# Altium footprint library ce100.PcbLib: 2 footprints
Each footprint in its own frame and in the unit in brackets; x right, y up, seen from the top. Pads: shape width x height; smd on the part's side, far side on the other; paste and mask are expansions set on the pad; w line width, h text height; cw(c..) or ccw(c..) is an arc to the next point about the centre after c.
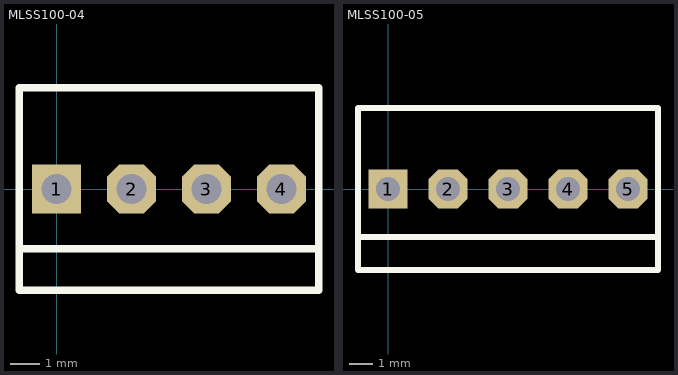
[diagram p0: the footprints below, top view; thin cyan lines are the x and y axes]

## MLSS100-04 [mil]
pads (4):
  rect 65x65 hole 39.37: 1(0,0)
  oct 65x65 hole 39.37: 2(100,0) 3(200,0) 4(300,0)
Top Overlay:
  lines w10: -50,-80 350,-80 ; -50,-135 -50,135 350,135 350,-135 -50,-135

## MLSS100-05 [mil]
pads (5):
  rect 65x65 hole 39.37: 1(0,0)
  oct 65x65 hole 39.37: 2(100,0) 3(200,0) 4(300,0) 5(400,0)
Top Overlay:
  lines w10: -50,-80 450,-80 ; -50,-135 450,-135 450,135 -50,135 -50,-135